# EAGLE library part TDA8933B (library Audio-Power-amlifier V.2.0)
The TDA8933B is a high-efficiency class D amplifier with low power dissipation. The continuous time output power is 2 ´ 10 W in a stereo half-bridge application (RL = 8 W) or 1 ´ 20 W in a mono full-bridge application (RL =16 W). Due to the low power dissipation the device can be used without any external heat sink when playing music. Due to the implementation of Thermal Foldback (TF) the device remains operating with considerable music output power without the need for an external heat sink, even for high supply voltages and/or lower load impedances.
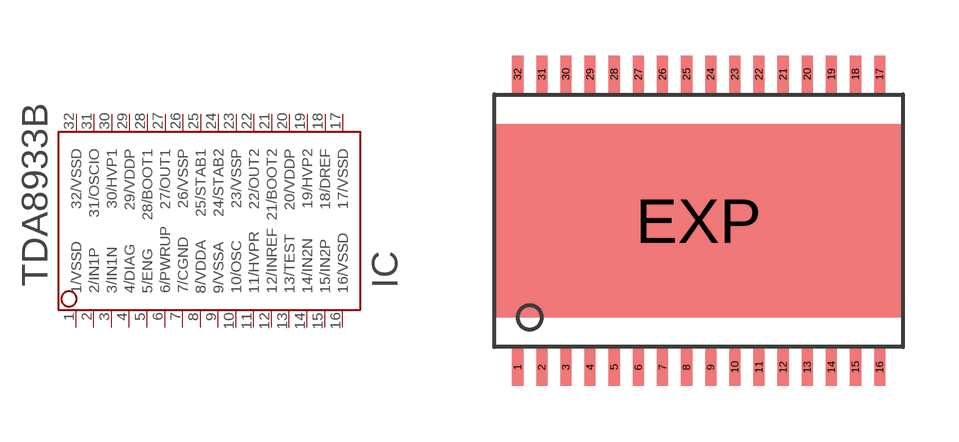
[diagram p150: symbol with the pads of HTSSOP32DAP; footprint HTSSOP32DAP]

Designator prefix IC

## TDA8933B  [HTSSOP32DAP]
1  1/VSSD  pwr
2  2/IN1P  in
3  3/IN1N  in
4  4/DIAG  out
5  5/ENG  in
6  6/PWRUP  in
7  7/CGND  pwr
8  8/VDDA  pwr
9  9/VSSA  pwr
10  10/OSC  in
11  11/HVPR  pwr
12  12/INREF  in
13  13/TEST  in
14  14/IN2N  in
15  15/IN2P  in
16  16/VSSD  pwr
17  17/VSSD  pwr
18  18/DREF
19  19/HVP2  out
20  20/VDDP  pwr
21  21/BOOT2
22  22/OUT2  out
23  23/VSSP  out
24  24/STAB2
25  25/STAB1
26  26/VSSP  pwr
27  27/OUT1  out
28  28/BOOT1
29  29/VDDP  pwr
30  30/HVP1
31  31/OSCIO  in
32  32/VSSD  pwr

## Footprint HTSSOP32DAP (pad centres in mm)
PowerPAD(TM) PLASTIC SMALL-OUTLINE PACKAGE
smd 0.3 x 1: 1 -4.875,-3.95; 2 -4.225,-3.95; 3 -3.575,-3.95; 4 -2.925,-3.95; 5 -2.275,-3.95; 6 -1.625,-3.95; 7 -0.975,-3.95; 8 -0.325,-3.95; 9 0.325,-3.95; 10 0.975,-3.95; 11 1.625,-3.95; 12 2.275,-3.95; 13 2.925,-3.95; 14 3.575,-3.95; 15 4.225,-3.95; 16 4.875,-3.95; 17 4.875,3.95; 18 4.225,3.95; 19 3.575,3.95; 20 2.925,3.95; 21 2.275,3.95; 22 1.625,3.95; 23 0.975,3.95; 24 0.325,3.95; 25 -0.325,3.95; 26 -0.975,3.95; 27 -1.625,3.95; 28 -2.275,3.95; 29 -2.925,3.95; 30 -3.575,3.95; 31 -4.225,3.95; 32 -4.875,3.95
smd 11 x 5.2: EXP 0,0